# EAGLE library part ADAFRUIT-ITSYBITSY-M4-EXPRESS(NO-BACK-PINS) (library adafruit_boards)
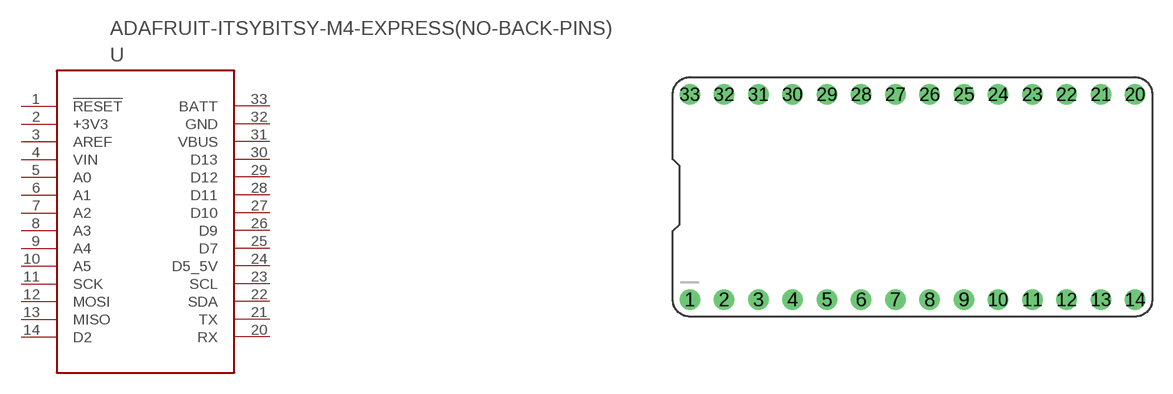
[diagram p2: symbol with the pads of ITSYBITSY-PINS(NO-BACK-PINS); footprint ITSYBITSY-PINS(NO-BACK-PINS)]

Designator prefix U

## ADAFRUIT-ITSYBITSY-M4-EXPRESS(NO-BACK-PINS)  [ITSYBITSY-PINS(NO-BACK-PINS)]
1  !RESET
2  +3V3
3  AREF
4  VIN
5  A0
6  A1
7  A2
8  A3
9  A4
10  A5
11  SCK
12  MOSI
13  MISO
14  D2
20  RX
21  TX
22  SDA
23  SCL
24  D5_5V
25  D7
26  D9
27  D10
28  D11
29  D12
30  D13
31  VBUS
32  GND
33  BATT

## Footprint ITSYBITSY-PINS(NO-BACK-PINS) (pad centres in mm)
PIN HEADER
drill 1: 1 -16.51,0; 2 -13.97,0; 3 -11.43,0; 4 -8.89,0; 5 -6.35,0; 6 -3.81,0; 7 -1.27,0; 8 1.27,0; 9 3.81,0; 10 6.35,0; 11 8.89,0; 12 11.43,0; 13 13.97,0; 14 16.51,0; 20 16.51,15.24; 21 13.97,15.24; 22 11.43,15.24; 23 8.89,15.24; 24 6.35,15.24; 25 3.81,15.24; 26 1.27,15.24; 27 -1.27,15.24; 28 -3.81,15.24; 29 -6.35,15.24; 30 -8.89,15.24; 31 -11.43,15.24; 32 -13.97,15.24; 33 -16.51,15.24